# Altium integrated library YD-ESP32-S3.IntLib: 1 symbol
Pins are listed as number, name and electrical type; pins without a type are passive.

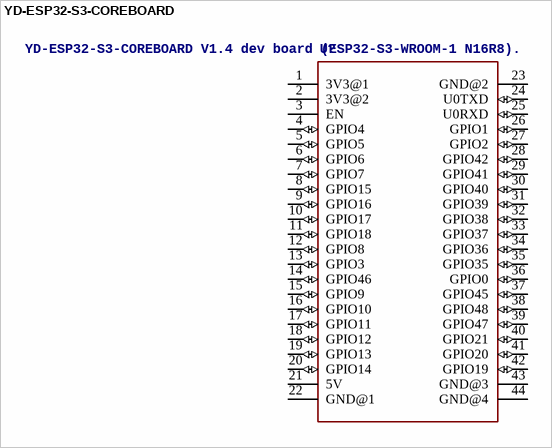
[diagram p0: symbol YD-ESP32-S3-COREBOARD]

## YD-ESP32-S3-COREBOARD
designator U?, comment YD-ESP32-S3-COREBOARD V1.4 dev board (ESP32-S3-WROOM-1 N16R8).
footprint YD-ESP32-S3-COREBOARD
pins: 1 3V3@1 (power), 2 3V3@2 (power), 3 EN, 4 GPIO4 (io), 5 GPIO5 (io), 6 GPIO6 (io), 7 GPIO7 (io), 8 GPIO15 (io), 9 GPIO16 (io), 10 GPIO17 (io), 11 GPIO18 (io), 12 GPIO8 (io), 13 GPIO3 (io), 14 GPIO46 (io), 15 GPIO9 (io), 16 GPIO10 (io), 17 GPIO11 (io), 18 GPIO12 (io), 19 GPIO13 (io), 20 GPIO14 (io), 21 5V (power), 22 GND@1 (power), 23 GND@2 (power), 24 U0TXD (io), 25 U0RXD (io), 26 GPIO1 (io), 27 GPIO2 (io), 28 GPIO42 (io), 29 GPIO41 (io), 30 GPIO40 (io), 31 GPIO39 (io), 32 GPIO38 (io), 33 GPIO37 (io), 34 GPIO36 (io), 35 GPIO35 (io), 36 GPIO0 (io), 37 GPIO45 (io), 38 GPIO48 (io), 39 GPIO47 (io), 40 GPIO21 (io), 41 GPIO20 (io), 42 GPIO19 (io), 43 GND@3 (power), 44 GND@4 (power)